# EAGLE library part HDC2010 (library tilesPartComp)
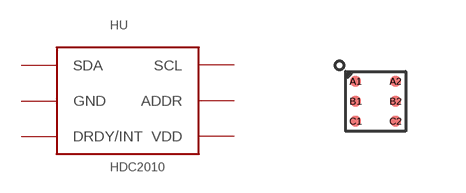
[diagram p5: symbol with the pads of DSBGA-6; footprint DSBGA-6]

Designator prefix HU

## HDC2010  [DSBGA-6]
A1  VDD  pwr
A2  SDA
B1  ADDR  in
B2  SCL  in
C1  GND  sup
C2  DRDY/INT  out

## Footprint DSBGA-6 (pad centres in mm)
smd 0.263 x 0.263: A1 -0.5,0.5; A2 0.5,0.5; B1 -0.5,0; B2 0.5,0; C1 -0.5,-0.5; C2 0.5,-0.5